# Altium footprint library XDCR_BPV10NF.PcbLib: 1 footprints
Each footprint in its own frame and in the unit in brackets; x right, y up, seen from the top. Pads: shape width x height; smd on the part's side, far side on the other; paste and mask are expansions set on the pad; w line width, h text height; cw(c..) or ccw(c..) is an arc to the next point about the centre after c.
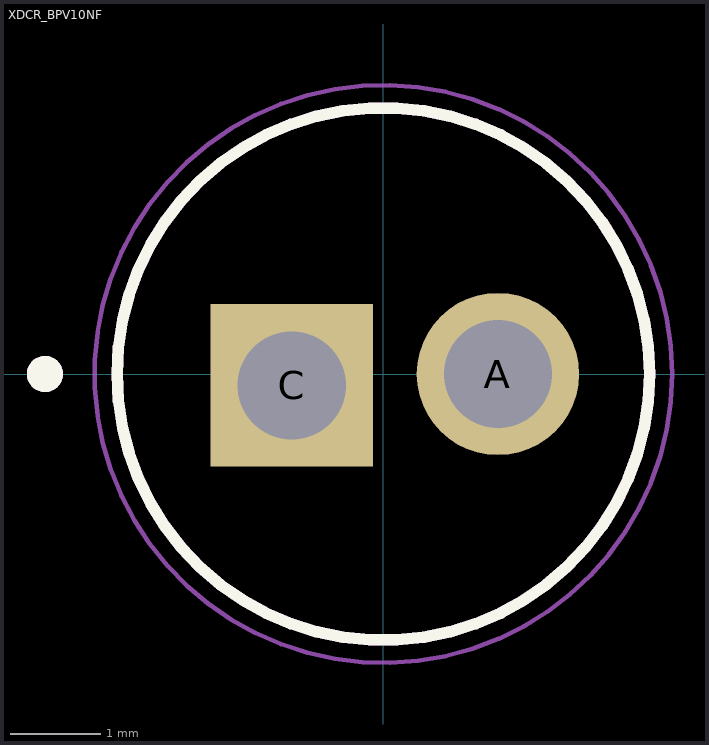
[diagram p0: the footprint, top view; thin cyan lines are the x and y axes]

## XDCR_BPV10NF [mm]
pads (2):
  round 1.8 hole 1.2: A(1.27,0)
  rect 1.8x1.8 / inner round 1.8 / far side rect 1.8x1.8 hole 1.2: C(-1.016,-0.127)
Top Overlay:
  circle w0.2: c-3.75,0 r0.1
  circle w0.127: c0,0 r2.95
Mechanical 13:
  circle w0.127: c0,0 r2.95
  circle w0.2: c-3.75,0 r0.1
Mechanical 15:
  circle w0.05: c0,0 r3.2
3D body "everlight-PT204-6B.STEP": height 5.4, standoff -7.17, extent -1.521,-1.895 1.905,1.905